# Altium integrated library Potentiometers.IntLib: 1 symbol
Pins are listed as number, name and electrical type; pins without a type are passive.

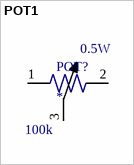
[diagram p0: symbol POT1]

## POT1
designator POT?  Power Rating: 0.5W  Resistance: 100k
100 kOhms 0.5W, 1/2W PC Pins Through Hole Trimmer Potentiometer Cermet 25 Turn Top Adjustment; Manufacturer 1: Bourns Inc.; Manufacturer 1 PN: PV36W104C01B00; ComponentLink1Description: Datasheet; ComponentLink1URL: https://www.bourns.com/docs/Product-Datasheets/pv36.pdf; Digi-Key PN: 490-2876-ND
footprint POT1 (TRIMMER 100K OHM 0.5W PC PIN TOP)
pins: 1, 2, 3